# EAGLE library part MC100ELT25DTG (library ON_Semiconductor_By_element14_Batch_1)
-5 V Differential ECL to TTL Translator
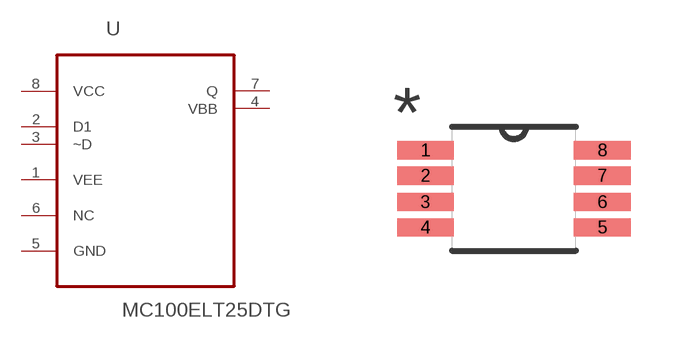
[diagram p92: symbol with the pads of SOP65P490X110-8N; footprint SOP65P490X110-8N]

Designator prefix U

## MC100ELT25DTG (MPN: MC100ELT25DTG; OC_FARNELL: 1607863; OC_NEWARK: 26K3813; PACKAGE: TSSOP-8; SUPPLIER: ON SEMICONDUCTOR)  [SOP65P490X110-8N]
1  VEE  pwr
2  D1  in
3  ~D  in
4  VBB  pwr
5  GND  pas
6  NC  nc
7  Q  pwr
8  VCC  pwr

## Footprint SOP65P490X110-8N (pad centres in mm)
smd 1.422 x 0.457: 1 -2.21,0.965; 2 -2.21,0.33; 3 -2.21,-0.33; 4 -2.21,-0.965; 5 2.21,-0.965; 6 2.21,-0.33; 7 2.21,0.33; 8 2.21,0.965